# Altium footprint library LQFP.PcbLib: 5 footprints
Each footprint in its own frame and in the unit in brackets; x right, y up, seen from the top. Pads: shape width x height; smd on the part's side, far side on the other; paste and mask are expansions set on the pad; w line width, h text height; cw(c..) or ccw(c..) is an arc to the next point about the centre after c.
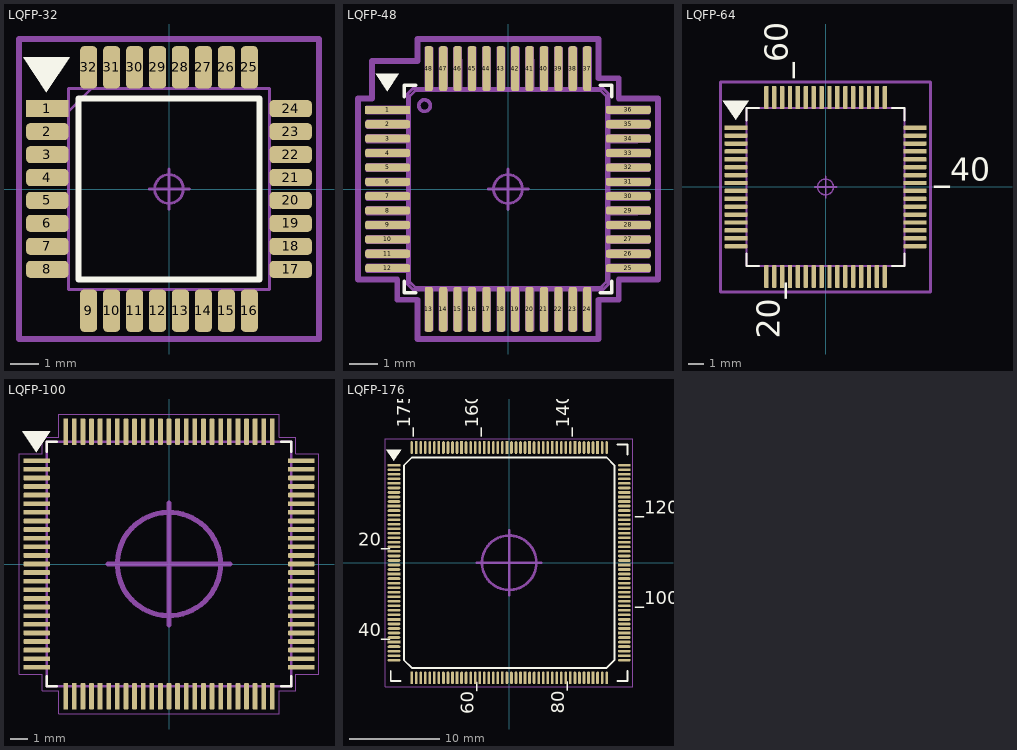
[diagram p0: the footprints below, top view; thin cyan lines are the x and y axes]

## LQFP-32 [mm]
pads (32):
  rect 1.475x0.6 smd: 1(-4.238,2.8)
  rrect50% 1.475x0.6 smd: 2(-4.238,2) 3(-4.238,1.2) 4(-4.238,0.4) 5(-4.238,-0.4) 6(-4.238,-1.2) 7(-4.238,-2) 8(-4.238,-2.8) 17(4.238,-2.8) 18(4.238,-2) 19(4.238,-1.2) 20(4.238,-0.4) 21(4.238,0.4) 22(4.238,1.2) 23(4.238,2) 24(4.238,2.8)
  rrect50% 0.6x1.475 smd: 9(-2.8,-4.238) 10(-2,-4.238) 11(-1.2,-4.238) 12(-0.4,-4.238) 13(0.4,-4.238) 14(1.2,-4.238) 15(2,-4.238) 16(2.8,-4.238) 25(2.8,4.238) 26(2,4.238) 27(1.2,4.238) 28(0.4,4.238) 29(-0.4,4.238) 30(-1.2,4.238) 31(-2,4.238) 32(-2.8,4.238)
Top Overlay:
  region: -3.454,4.597 -5.08,4.597 -4.267,3.378
  lines w0.2: -3.15,-3.15 3.15,-3.15 3.15,3.15 -3.15,3.15 -3.15,-3.15
Top Assembly:
  lines w0.1: -3.5,2.7 -2.7,3.5 ; -3.5,-3.5 3.5,-3.5 3.5,3.5 -3.5,3.5 -3.5,-3.5
Top Designator:
  text "'.Designator'" at -4.238,-0.4 h0.7
Top Component Outline:
  lines w0.2: -5.225,-5.225 5.225,-5.225 5.225,5.225 -5.225,5.225 -5.225,-5.225
Top Component Center:
  circle w0.1: c0,0 r0.5
  lines w0.1: -0.686,0 0.711,0 ; -0.001,-0.706 -0.001,0.691
3D body "STM32F051K8T6TR.stp": height 1.6, standoff 0, extent -4.5,-4.5 4.5,4.5

## LQFP-48 [mm]
pads (48):
  rect 1.56x0.28 smd paste-2539.97 mask+0.1: 1(-4.18,2.75)
  rrect50% 1.56x0.28 smd paste-2539.97 mask+0.1: 2(-4.18,2.25) 3(-4.18,1.75) 4(-4.18,1.25) 5(-4.18,0.75) 6(-4.18,0.25) 7(-4.18,-0.25) 8(-4.18,-0.75) 9(-4.18,-1.25) 10(-4.18,-1.75) 11(-4.18,-2.25) 12(-4.18,-2.75) 25(4.18,-2.75) 26(4.18,-2.25) 27(4.18,-1.75) 28(4.18,-1.25) 29(4.18,-0.75) 30(4.18,-0.25) 31(4.18,0.25) 32(4.18,0.75) 33(4.18,1.25) 34(4.18,1.75) 35(4.18,2.25) 36(4.18,2.75)
  rrect50% 0.28x1.56 smd paste-2539.97 mask+0.1: 13(-2.75,-4.18) 14(-2.25,-4.18) 15(-1.75,-4.18) 16(-1.25,-4.18) 17(-0.75,-4.18) 18(-0.25,-4.18) 19(0.25,-4.18) 20(0.75,-4.18) 21(1.25,-4.18) 22(1.75,-4.18) 23(2.25,-4.18) 24(2.75,-4.18) 37(2.75,4.18) 38(2.25,4.18) 39(1.75,4.18) 40(1.25,4.18) 41(0.75,4.18) 42(0.25,4.18) 43(-0.25,4.18) 44(-0.75,4.18) 45(-1.25,4.18) 46(-1.75,4.18) 47(-2.25,4.18) 48(-2.75,4.18)
Top Overlay:
  region: -3.8,4 -4.6,4 -4.2,3.4
  lines w0.127: -3.6,-3.21 -3.6,-3.6 -3.21,-3.6 ; -3.6,3.21 -3.6,3.6 -3.21,3.6 ; 3.21,-3.6 3.6,-3.6 3.6,-3.21 ; 3.21,3.6 3.6,3.6 3.6,3.21
Top Assembly:
  drawing of 754 lines, arcs and shapes, not listed
Top Designator:
  text "'.Designator'" at -4.039,-0.762 h0.7
Top Component Outline:
  lines w0.2: -5.21,-3.14 -5.21,3.14 -4.724,3.14 -4.724,4.445 -3.14,4.445 -3.14,5.21 3.14,5.21 3.14,3.85 3.85,3.85 3.85,3.14 5.21,3.14 5.21,-3.14 3.85,-3.14 3.85,-3.85 3.14,-3.85 3.14,-5.21 -3.14,-5.21 -3.14,-3.85 -3.85,-3.85 -3.85,-3.14 -5.21,-3.14
Top Component Center:
  circle w0.1: c0,0 r0.5
  lines w0.1: -0.686,0 0.711,0 ; -0.001,-0.706 -0.001,0.691
3D body "step_temp.STEP": height 1.6, standoff 0, extent -4.5,-4.5 4.5,4.5

## LQFP-64 [mm]
pads (64):
  rect 1.47x0.28 smd: 1(-5.67,3.75) 5(-5.67,1.75) 10(-5.67,-0.75) 15(-5.67,-3.25) 35(5.67,-2.75) 40(5.67,-0.25) 45(5.67,2.25)
  rrect50% 1.47x0.28 smd: 2(-5.67,3.25) 3(-5.67,2.75) 4(-5.67,2.25) 6(-5.67,1.25) 7(-5.67,0.75) 8(-5.67,0.25) 9(-5.67,-0.25) 11(-5.67,-1.25) 12(-5.67,-1.75) 13(-5.67,-2.25) 14(-5.67,-2.75) 16(-5.67,-3.75) 33(5.67,-3.75) 34(5.67,-3.25) 36(5.67,-2.25) 37(5.67,-1.75) 38(5.67,-1.25) 39(5.67,-0.75) 41(5.67,0.25) 42(5.67,0.75) 43(5.67,1.25) 44(5.67,1.75) 46(5.67,2.75) 47(5.67,3.25) 48(5.67,3.75)
  rrect50% 0.28x1.47 smd: 17(-3.75,-5.67) 18(-3.25,-5.67) 19(-2.75,-5.67) 21(-1.75,-5.67) 22(-1.25,-5.67) 23(-0.75,-5.67) 24(-0.25,-5.67) 26(0.75,-5.67) 27(1.25,-5.67) 28(1.75,-5.67) 29(2.25,-5.67) 31(3.25,-5.67) 32(3.75,-5.67) 49(3.75,5.67) 51(2.75,5.67) 52(2.25,5.67) 53(1.75,5.67) 54(1.25,5.67) 56(0.25,5.67) 57(-0.25,5.67) 58(-0.75,5.67) 59(-1.25,5.67) 61(-2.25,5.67) 62(-2.75,5.67) 63(-3.25,5.67) 64(-3.75,5.67)
  rect 0.28x1.47 smd: 20(-2.25,-5.67) 25(0.25,-5.67) 30(2.75,-5.67) 50(3.25,5.67) 55(0.75,5.67) 60(-1.75,5.67)
Top Overlay:
  region: -4.877,5.461 -6.502,5.461 -5.69,4.242
  lines w0.127: -5,-4.21 -5,-5 -4.21,-5 ; -5,4.21 -5,5 -4.21,5 ; 4.21,-5 5,-5 5,-4.21 ; 4.21,5 5,5 5,4.21
  text "20_" at -2.402,-9.627 h2.5
  text "_40" at 6.87,-0.098 h2.5
  text "_60" at -1.902,6.87 h2.5
Top Assembly:
  lines w0.127: -5,-5 -5,5 5,5 5,-5 -5,-5
Top Designator:
  text "'.Designator'" at -4.166,-0.711 h0.7
Top Component Outline:
  lines w0.2: -6.655,-6.655 -6.655,6.655 6.655,6.655 6.655,-6.655 -6.655,-6.655
Top Component Center:
  circle w0.1: c0,0 r0.5
  lines w0.1: -0.686,0 0.711,0 ; -0.001,-0.706 -0.001,0.691
3D body "step_temp.STEP": height 1.6, standoff 0, extent -6,-6 6,6

## LQFP-100 [mm]
height 1.6
pads (100):
  rect 1.56x0.28 smd: 1(-7.68,6) 10(-7.68,1.5) 20(-7.68,-3.5) 60(7.68,-1.5) 70(7.68,3.5)
  rrect50% 1.56x0.28 smd: 2(-7.68,5.5) 3(-7.68,5) 4(-7.68,4.5) 5(-7.68,4) 6(-7.68,3.5) 7(-7.68,3) 8(-7.68,2.5) 9(-7.68,2) 11(-7.68,1) 12(-7.68,0.5) 13(-7.68,0) 14(-7.68,-0.5) 15(-7.68,-1) 16(-7.68,-1.5) 17(-7.68,-2) 18(-7.68,-2.5) 19(-7.68,-3) 21(-7.68,-4) 22(-7.68,-4.5) 23(-7.68,-5) 24(-7.68,-5.5) 25(-7.68,-6) 51(7.68,-6) 52(7.68,-5.5) 53(7.68,-5) 54(7.68,-4.5) 55(7.68,-4) 56(7.68,-3.5) 57(7.68,-3) 58(7.68,-2.5) 59(7.68,-2) 61(7.68,-1) 62(7.68,-0.5) 63(7.68,0) 64(7.68,0.5) 65(7.68,1) 66(7.68,1.5) 67(7.68,2) 68(7.68,2.5) 69(7.68,3) 71(7.68,4) 72(7.68,4.5) 73(7.68,5) 74(7.68,5.5) 75(7.68,6)
  rrect50% 0.28x1.56 smd: 26(-6,-7.68) 27(-5.5,-7.68) 28(-5,-7.68) 29(-4.5,-7.68) 31(-3.5,-7.68) 32(-3,-7.68) 33(-2.5,-7.68) 34(-2,-7.68) 35(-1.5,-7.68) 36(-1,-7.68) 37(-0.5,-7.68) 38(0,-7.68) 39(0.5,-7.68) 41(1.5,-7.68) 42(2,-7.68) 43(2.5,-7.68) 44(3,-7.68) 45(3.5,-7.68) 46(4,-7.68) 47(4.5,-7.68) 48(5,-7.68) 49(5.5,-7.68) 76(6,7.68) 77(5.5,7.68) 78(5,7.68) 79(4.5,7.68) 81(3.5,7.68) 82(3,7.68) 83(2.5,7.68) 84(2,7.68) 85(1.5,7.68) 86(1,7.68) 87(0.5,7.68) 88(0,7.68) 89(-0.5,7.68) 91(-1.5,7.68) 92(-2,7.68) 93(-2.5,7.68) 94(-3,7.68) 95(-3.5,7.68) 96(-4,7.68) 97(-4.5,7.68) 98(-5,7.68) 99(-5.5,7.68)
  rect 0.28x1.56 smd: 30(-4,-7.68) 40(1,-7.68) 50(6,-7.68) 80(4,7.68) 90(-1,7.68) 100(-6,7.68)
Top Overlay:
  region: -6.887,7.711 -8.512,7.711 -7.7,6.492
  lines w0.127: -7.1,-6.5 -7.1,-7.1 -6.5,-7.1 ; -7.1,6.5 -7.1,7.1 -6.5,7.1 ; 6.5,-7.1 7.1,-7.1 7.1,-6.5 ; 6.5,7.1 7.1,7.1 7.1,6.5
Top Assembly:
  lines w0.127: -7.1,-7.1 -7.1,7.1 7.1,7.1 7.1,-7.1 -7.1,-7.1
Top Designator:
  text "'.Designator'" at -4.166,-0.711 h0.7
Top Component Center:
  circle w0.3: c0,0 r3
  lines w0.05: -8.71,-6.39 -8.71,6.39 -7.35,6.39 -7.35,7.35 -6.39,7.35 -6.39,8.71 6.39,8.71 6.39,7.35 7.35,7.35 7.35,6.39 8.71,6.39 8.71,-6.39 7.35,-6.39 7.35,-7.35 6.39,-7.35 6.39,-8.71 -6.39,-8.71 -6.39,-7.35 -7.35,-7.35 -7.35,-6.39 -8.71,-6.39
  lines w0.3: -3.55,-0.001 3.55,-0.001 ; -0.001,-3.55 -0.001,3.55
3D body "step_temp.STEP": height 1.6, standoff 0, extent -8,-8 8,8

## LQFP-176 [mm] "LQFP, 176-Leads, Body 26,00x26,00mm, Pitch 0,50mm, IPC Medium Density"
height 1.6
pads (176):
  rect 1.4x0.3 smd: 1(-12.7,10.75) 5(-12.7,8.75) 10(-12.7,6.25) 15(-12.7,3.75) 20(-12.7,1.25) 25(-12.7,-1.25) 30(-12.7,-3.75) 35(-12.7,-6.25) 40(-12.7,-8.75) 90(12.7,-10.25) 95(12.7,-7.75) 100(12.7,-5.25) 105(12.7,-2.75) 110(12.7,-0.25) 115(12.7,2.25) 120(12.7,4.75) 125(12.7,7.25) 130(12.7,9.75)
  oval 1.4x0.3 smd: 2(-12.7,10.25) 3(-12.7,9.75) 4(-12.7,9.25) 6(-12.7,8.25) 7(-12.7,7.75) 8(-12.7,7.25) 9(-12.7,6.75) 11(-12.7,5.75) 12(-12.7,5.25) 13(-12.7,4.75) 14(-12.7,4.25) 16(-12.7,3.25) 17(-12.7,2.75) 18(-12.7,2.25) 19(-12.7,1.75) 21(-12.7,0.75) 22(-12.7,0.25) 23(-12.7,-0.25) 24(-12.7,-0.75) 26(-12.7,-1.75) 27(-12.7,-2.25) 28(-12.7,-2.75) 29(-12.7,-3.25) 31(-12.7,-4.25) 32(-12.7,-4.75) 33(-12.7,-5.25) 34(-12.7,-5.75) 36(-12.7,-6.75) 37(-12.7,-7.25) 38(-12.7,-7.75) 39(-12.7,-8.25) 41(-12.7,-9.25) 42(-12.7,-9.75) 43(-12.7,-10.25) 44(-12.7,-10.75) 89(12.7,-10.75) 91(12.7,-9.75) 92(12.7,-9.25) 93(12.7,-8.75) 94(12.7,-8.25) 96(12.7,-7.25) 97(12.7,-6.75) 98(12.7,-6.25) 99(12.7,-5.75) 101(12.7,-4.75) 102(12.7,-4.25) 103(12.7,-3.75) 104(12.7,-3.25) 106(12.7,-2.25) 107(12.7,-1.75) 108(12.7,-1.25) 109(12.7,-0.75) 111(12.7,0.25) 112(12.7,0.75) 113(12.7,1.25) 114(12.7,1.75) 116(12.7,2.75) 117(12.7,3.25) 118(12.7,3.75) 119(12.7,4.25) 121(12.7,5.25) 122(12.7,5.75) 123(12.7,6.25) 124(12.7,6.75) 126(12.7,7.75) 127(12.7,8.25) 128(12.7,8.75) 129(12.7,9.25) 131(12.7,10.25) 132(12.7,10.75)
  rect 0.3x1.4 smd: 45(-10.75,-12.7) 50(-8.25,-12.7) 55(-5.75,-12.7) 60(-3.25,-12.7) 65(-0.75,-12.7) 70(1.75,-12.7) 75(4.25,-12.7) 80(6.75,-12.7) 85(9.25,-12.7) 135(9.75,12.7) 140(7.25,12.7) 145(4.75,12.7) 150(2.25,12.7) 155(-0.25,12.7) 160(-2.75,12.7) 165(-5.25,12.7) 170(-7.75,12.7) 175(-10.25,12.7)
  oval 0.3x1.4 smd: 46(-10.25,-12.7) 47(-9.75,-12.7) 48(-9.25,-12.7) 49(-8.75,-12.7) 51(-7.75,-12.7) 52(-7.25,-12.7) 53(-6.75,-12.7) 54(-6.25,-12.7) 56(-5.25,-12.7) 57(-4.75,-12.7) 58(-4.25,-12.7) 59(-3.75,-12.7) 61(-2.75,-12.7) 62(-2.25,-12.7) 63(-1.75,-12.7) 64(-1.25,-12.7) 66(-0.25,-12.7) 67(0.25,-12.7) 68(0.75,-12.7) 69(1.25,-12.7) 71(2.25,-12.7) 72(2.75,-12.7) 73(3.25,-12.7) 74(3.75,-12.7) 76(4.75,-12.7) 77(5.25,-12.7) 78(5.75,-12.7) 79(6.25,-12.7) 81(7.25,-12.7) 82(7.75,-12.7) 83(8.25,-12.7) 84(8.75,-12.7) 86(9.75,-12.7) 87(10.25,-12.7) 88(10.75,-12.7) 133(10.75,12.7) 134(10.25,12.7) 136(9.25,12.7) 137(8.75,12.7) 138(8.25,12.7) 139(7.75,12.7) 141(6.75,12.7) 142(6.25,12.7) 143(5.75,12.7) 144(5.25,12.7) 146(4.25,12.7) 147(3.75,12.7) 148(3.25,12.7) 149(2.75,12.7) 151(1.75,12.7) 152(1.25,12.7) 153(0.75,12.7) 154(0.25,12.7) 156(-0.75,12.7) 157(-1.25,12.7) 158(-1.75,12.7) 159(-2.25,12.7) 161(-3.25,12.7) 162(-3.75,12.7) 163(-4.25,12.7) 164(-4.75,12.7) 166(-5.75,12.7) 167(-6.25,12.7) 168(-6.75,12.7) 169(-7.25,12.7) 171(-8.25,12.7) 172(-8.75,12.7) 173(-9.25,12.7) 174(-9.75,12.7) 176(-10.75,12.7)
Top Overlay:
  region: -11.907,12.461 -13.532,12.461 -12.72,11.242
  lines w0.2: -13.05,-11.95 -13.05,-13.05 -11.95,-13.05 ; 11.95,-13.05 13.05,-13.05 13.05,-11.95 ; 11.95,13.05 13.05,13.05 13.05,11.95 ; -11.6,-10.75 -11.6,10.75 -10.75,11.6 10.75,11.6 11.6,10.75 11.6,-10.75 10.75,-11.6 -10.75,-11.6 -11.6,-10.75
  text "_175" at -10.402,13.9 h2.5
  text "_160" at -2.902,13.9 h2.5
  text "_140" at 7.098,13.9 h2.5
  text "_120" at 13.9,4.902 h2.5
  text "_100" at 13.9,-5.098 h2.5
  text "80_" at 6.598,-16.682 h2.5
  text "60_" at -3.402,-16.682 h2.5
  text "40_" at -16.657,-8.598 h2.5
  text "20_" at -16.657,1.402 h2.5
Top Designator:
  text "'.Designator'" at -9.425,-6.475 h0.7
Top Component Outline:
  lines w0.05: -13.65,-13.65 13.65,-13.65 13.65,13.65 -13.65,13.65 -13.65,-13.65
Top Component Center:
  circle w0.3: c0,0 r3
  lines w0.3: -3.55,-0.001 3.55,-0.001 ; -0.001,-3.55 -0.001,3.55
3D body "CQFP50P2600X2600X160-176N.step": height 1.55, standoff 0, extent -13.05,-13.05 13.05,13.05